# Altium integrated library IR Receiver.IntLib: 4 symbols
Pins are listed as number, name and electrical type; pins without a type are passive.

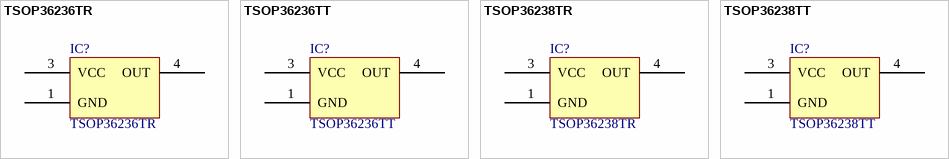
[diagram p0: symbols TSOP36236TR to TSOP36238TT]

## TSOP36236TR
designator IC?
manufacturer: Vishay Semiconductor Opto Division; Center Frequency: 36.0kHz; Voltage - Supply: 2.5V ~ 5.5V; Current - Supply: 350uA; partid: 29703; Part Number: TSOP36236TR; Supplier 1: Digi-Key; Supplier Part Number 1: TSOP36236TRTR-ND; componentlink1description: Datasheet; componentlink1url: http://www.vishay.com/docs/82568/tsop362.pdf; componentlink2description: Digi-Key Listing; componentlink2url: https://www.digikey.com/product-detail/en/vishay-semiconductor-opto-division/TSOP36236TR/TSOP36236TRTR-ND/4695735; Operating Temperature: -25C ~ 85C (TA); price: 0.705; Part Status: Active; Mounting Type: Surface Mount; Orientation: Side or Top View
footprint Vishay TSOP36x-TR
pins: 1 GND, 3 VCC, 4 OUT

## TSOP36236TT
designator IC?
manufacturer: Vishay Semiconductor Opto Division; Center Frequency: 36.0kHz; Voltage - Supply: 2.5V ~ 5.5V; Current - Supply: 350uA; partid: 29700; Part Number: TSOP36236TT; Supplier 1: Digi-Key; Supplier Part Number 1: TSOP36236TTTR-ND; componentlink1description: Datasheet; componentlink1url: http://www.vishay.com/docs/82568/tsop362.pdf; componentlink2description: Digi-Key Listing; componentlink2url: https://www.digikey.com/product-detail/en/vishay-semiconductor-opto-division/TSOP36236TT/TSOP36236TTTR-ND/4695736; Operating Temperature: -25C ~ 85C (TA); price: 0.658; Part Status: Active; Mounting Type: Surface Mount; Orientation: Side or Top View
footprint Vishay TSOP36x-TT
pins: 1 GND, 3 VCC, 4 OUT

## TSOP36238TR
designator IC?
manufacturer: Vishay Semiconductor Opto Division; Center Frequency: 38.0kHz; Voltage - Supply: 2.5V ~ 5.5V; Current - Supply: 350uA; partid: 29702; Part Number: TSOP36238TR; Supplier 1: Digi-Key; Supplier Part Number 1: TSOP36238TR-ND; componentlink1description: Datasheet; componentlink1url: http://www.vishay.com/docs/82568/tsop362.pdf; componentlink2description: Digi-Key Listing; componentlink2url: https://www.digikey.com/product-detail/en/vishay-semiconductor-opto-division/TSOP36238TR/TSOP36238TR-ND/1788417; Operating Temperature: -25C ~ 85C (TA); price: 0.658; Part Status: Active; Mounting Type: Surface Mount; Orientation: Top View
footprint Vishay TSOP36x-TR
pins: 1 GND, 3 VCC, 4 OUT

## TSOP36238TT
designator IC?
manufacturer: Vishay Semiconductor Opto Division; Center Frequency: 38.0kHz; Voltage - Supply: 2.5V ~ 5.5V; Current - Supply: 350uA; partid: 29701; Part Number: TSOP36238TT; Supplier 1: Digi-Key; Supplier Part Number 1: TSOP36238TTTR-ND; componentlink1description: Datasheet; componentlink1url: http://www.vishay.com/docs/82568/tsop362.pdf; componentlink2description: Digi-Key Listing; componentlink2url: https://www.digikey.com/product-detail/en/vishay-semiconductor-opto-division/TSOP36238TT/TSOP36238TTTR-ND/4695737; Operating Temperature: -25C ~ 85C (TA); price: 0.658; Part Status: Active; Mounting Type: Surface Mount; Orientation: Side or Top View
footprint Vishay TSOP36x-TT
pins: 1 GND, 3 VCC, 4 OUT